# Altium schematic symbol library 381LR471M450A052.SchLib: 1 symbol
Pins are listed as number, name and electrical type; pins without a type are passive.

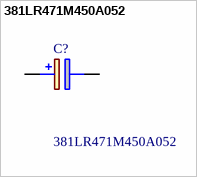
[diagram p0: symbol 381LR471M450A052]

## 381LR471M450A052
designator C?
CORNELL DUBILIER - 381LR471M450A052 - Electrolytic Capacitor, Snap-in, 470 F, 450 V, 381L Series, 3000 hours @ 105C, +/- 20%; Geometry.Height: 52mm; Mouser Part Number: 598-81LR471M450A052; Mouser Price/Stock: https://www.mouser.co.uk/ProductDetail/Cornell-Dubilier-CDE/381LR471M450A052?qs=PXF%252Blbo4VJ5kdzYLKBk6bg%3D%3D; Manufacturer_Name: Cornell Dubilier; Manufacturer_Part_Number: 381LR471M450A052; Datasheet Link: https://www.cde.com/resources/catalogs/381LR.pdf
footprint CAPPRD1000W190D3550H5200
pins: 1 +, 2 -